# Altium integrated library BC847B.IntLib: 1 symbol
Pins are listed as number, name and electrical type; pins without a type are passive.

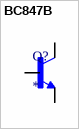
[diagram p0: symbol BC847B]

## BC847B
designator Q?
BJT, SOT-23, 45V, 100mA, NPN, 0.25W, 150C; MF: Diotec Semiconductor; MP: BC847B; SnapEDA_Link: https://www.snapeda.com/parts/BC847B/Diotec/view-part/?ref=snap; Package: SOT-23-3 Diotec; Value: *; Check_prices: https://www.snapeda.com/parts/BC847B/Diotec/view-part/?ref=eda
footprint TRANS_BC847B
pins: 1 B, 2 E, 3 C